# EAGLE library part HSCDRRN100MD4A3 (library general_lib)
Board Mount Pressure Sensors DIP, Dual Rad Barbed Differential, 3.3V Source: Datasheet <https://www.mouser.es/datasheet/2/187/honeywell_sensing_trustability_hsc_series_high_acc-708740.pdf>
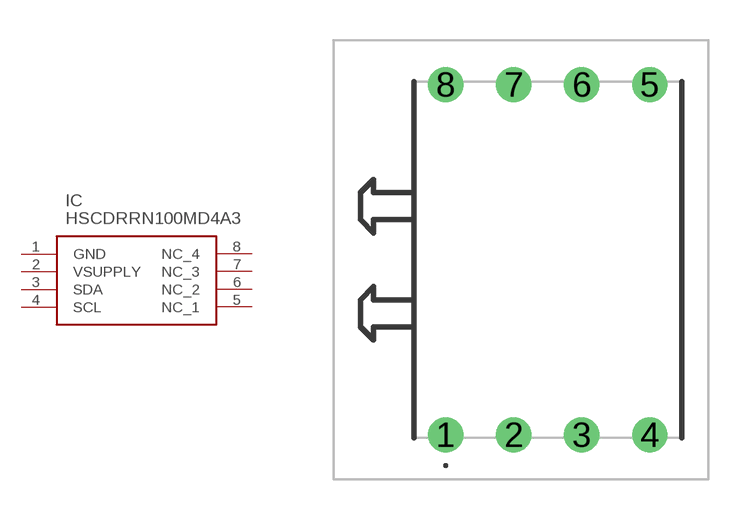
[diagram p2: symbol with the pads of HSCDRRN100MD4A3; footprint HSCDRRN100MD4A3]

Designator prefix IC

## HSCDRRN100MD4A3 (DESCRIPTION: Board Mount Pressure Sensors DIP, Dual Rad Barbed Differential, 3.3V; HEIGHT: 6.16mm; MANUFACTURER_NAME: Honeywell; MANUFACTURER_PART_NUMBER: HSCDRRN100MD4A3; MOUSER_PART_NUMBER: 785-HSCDRRN100MD4A3; MOUSER_PRICE-STOCK: https://www.mouser.co.uk/ProductDetail/Honeywell/HSCDRRN100MD4A3?qs=FIB5FJLAMZMg5BM%252B2yGYjw%3D%3D)  [HSCDRRN100MD4A3]
1  GND  sup
2  VSUPPLY  sup
3  SDA
4  SCL
5  NC_1  nc
6  NC_2  nc
7  NC_3  nc
8  NC_4  nc

## Footprint HSCDRRN100MD4A3 (pad centres in mm)
HSCDRRN100MD4A3-4
drill 0.813 pad 1.321: 1 0,0; 2 2.54,0; 3 5.08,0; 4 7.62,0; 5 7.62,13.08; 6 5.08,13.08; 7 2.54,13.08; 8 0,13.08